# Altium footprint library bch-lib.PcbLib: 86 footprints (part 1 of 6)
Each footprint in its own frame and in the unit in brackets; x right, y up, seen from the top. Pads: shape width x height; smd on the part's side, far side on the other; paste and mask are expansions set on the pad; w line width, h text height; cw(c..) or ccw(c..) is an arc to the next point about the centre after c.
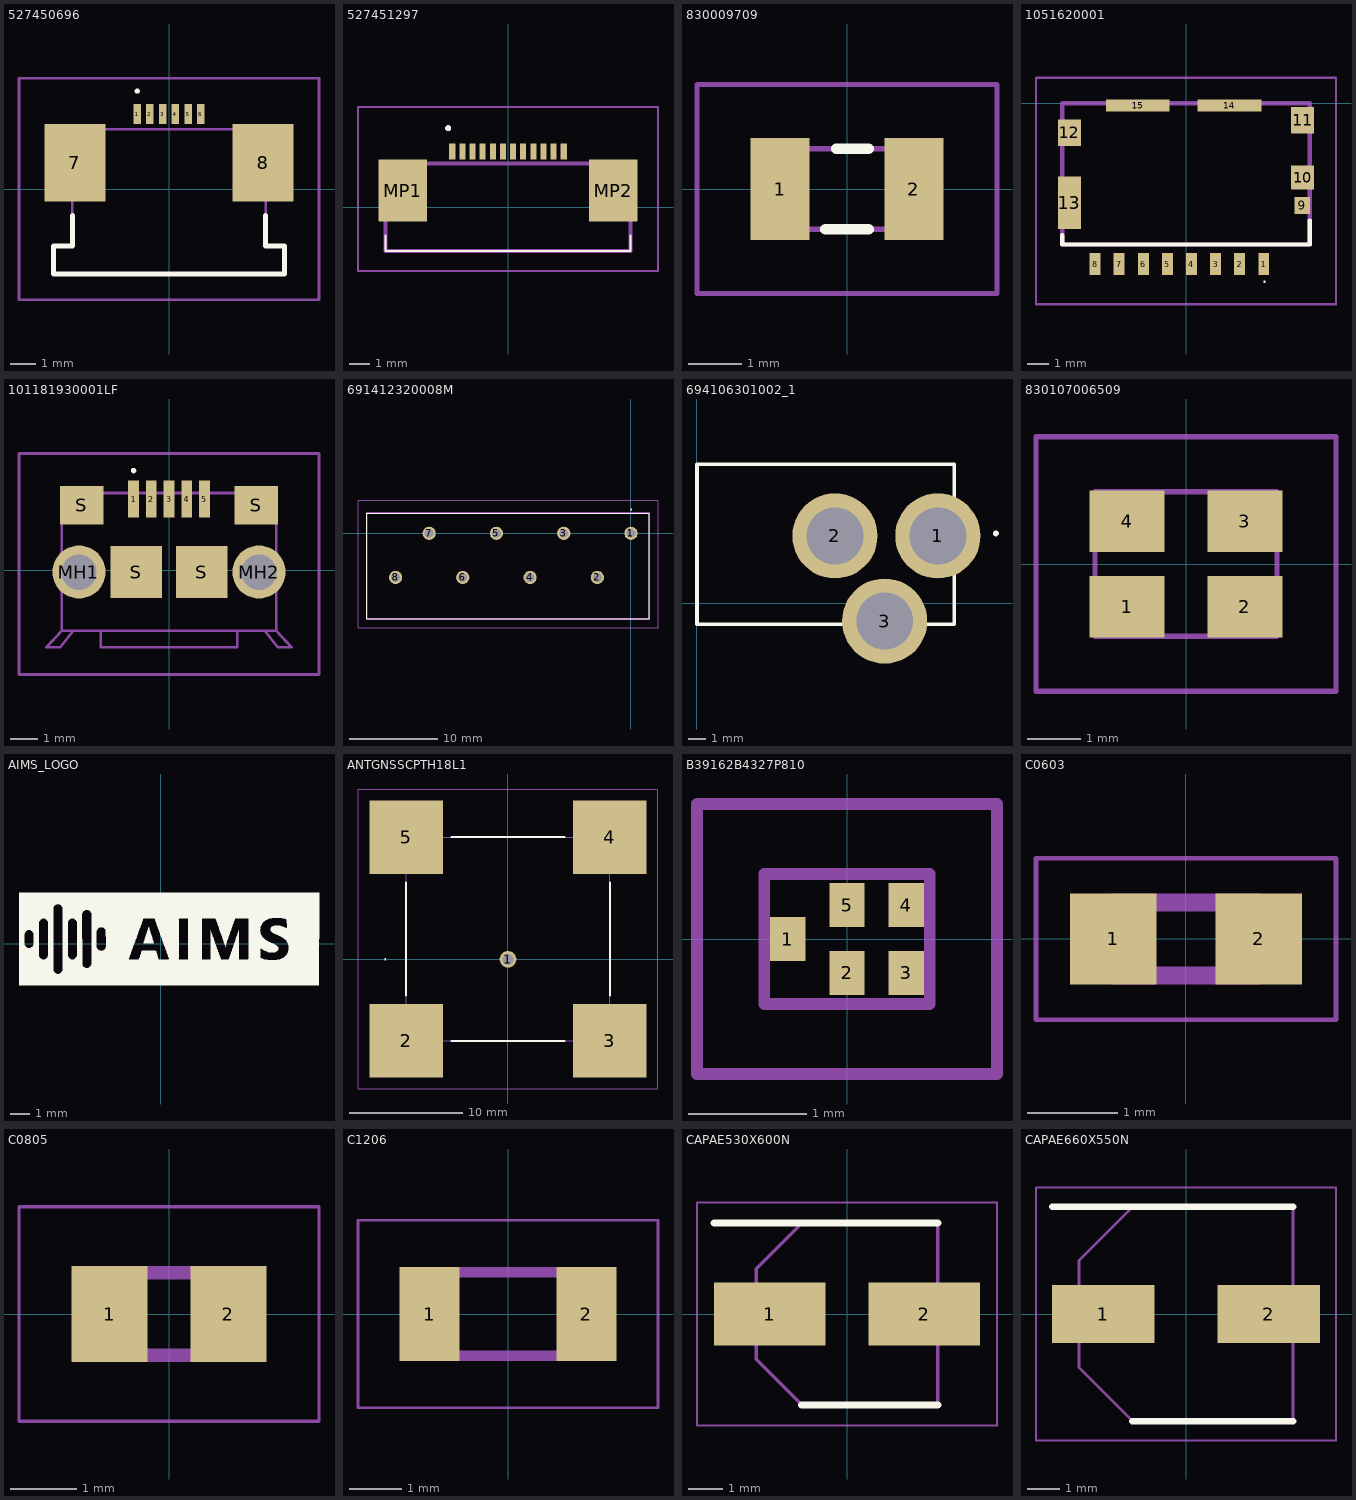
[diagram p0: the footprints below, top view; thin cyan lines are the x and y axes]

## 527450696 [mm]
pads (8):
  rect 0.3x0.8 smd: 1(-1.25,2.95) 2(-0.75,2.95) 3(-0.25,2.95) 4(0.25,2.95) 5(0.75,2.95) 6(1.25,2.95)
  rect 2.4x3.05 smd: 7(-3.7,1.025) 8(3.7,1.025)
Top Overlay:
  lines w0.1: -1.25,3.8 cw(c-1.25,3.85) -1.25,3.9 cw(c-1.25,3.85) -1.25,3.8
  lines w0.2: -3.8,-1.05 -3.8,-2.25 -4.55,-2.25 -4.55,-3.35 4.55,-3.35 4.55,-2.25 3.8,-2.25 3.8,-1.05
Mechanical 13:
  lines w0.1: -4.55,-3.35 -4.55,-2.25 -3.8,-2.25 -3.8,2.35 0,2.35 3.8,2.35 3.8,-2.25 4.55,-2.25 4.55,-3.35 -4.55,-3.35
Mechanical 15:
  lines w0.1: -5.9,-4.35 5.9,-4.35 5.9,4.35 -5.9,4.35 -5.9,-4.35
3D body "52745-0696.stp": height 2, standoff 0, extent -4.55,-3.2 4.55,3.2

## 527451297 [mm]
pads (14):
  rect 0.3x0.8 smd: 1(-2.75,2.75) 2(-2.25,2.75) 3(-1.75,2.75) 4(-1.25,2.75) 5(-0.75,2.75) 6(-0.25,2.75) 7(0.25,2.75) 8(0.75,2.75) 9(1.25,2.75) 10(1.75,2.75) 11(2.25,2.75) 12(2.75,2.75)
  rect 2.4x3.05 smd: MP1(-5.2,0.825) MP2(5.2,0.825)
Top Overlay:
  lines w0.1: -6.05,-2.15 -6.05,-1.4 -6.05,-2.15 ; -6.05,-2.15 6.05,-2.15 ; -6.05,-2.15 6.05,-2.15 ; 6.05,-2.15 6.05,-1.4 6.05,-2.15
  lines w0.2: -3,3.9 ccw(c-2.95,3.9) -2.9,3.9 ; -3,3.9 cw(c-2.95,3.9) -2.9,3.9 ; -3,3.9 ccw(c-2.95,3.9) -2.9,3.9
Mechanical 13:
  lines w0.2: -6.05,-2.15 6.05,-2.15 6.05,2.15 -6.05,2.15 -6.05,-2.15
Mechanical 15:
  lines w0.1: -7.4,-3.15 7.4,-3.15 7.4,4.95 -7.4,4.95 -7.4,-3.15
3D body "52745-1297.stp": height 2, standoff 0, extent -6.05,-2.06 6.05,2.94

## 830009709 [mm]
pads (2):
  rect 1.1x1.9 smd: 1(-1.25,0) 2(1.25,0)
Top Overlay:
  lines w0.2: -0.4,-0.75 0.4,-0.75 -0.4,-0.75 ; -0.2,0.75 0.4,0.75 -0.2,0.75
Mechanical 13:
  lines w0.1: -1.6,-0.75 -1.6,0.75 1.6,0.75 1.6,-0.75 -1.6,-0.75
Mechanical 15:
  lines w0.1: -2.8,-1.95 -2.8,1.95 2.8,1.95 2.8,-1.95 -2.8,-1.95
3D body "830009709.stp": height 0.75, standoff 0, extent -1.6,-0.75 1.6,0.75

## 1051620001 [mm]
pads (15):
  rect 0.5x1 smd: 1(3.55,-7.34) 2(2.45,-7.34) 3(1.35,-7.34) 4(0.25,-7.34) 5(-0.85,-7.34) 6(-1.95,-7.34) 7(-3.05,-7.34) 8(-4.15,-7.34)
  rect 0.72x0.78 smd: 9(5.31,-4.66)
  rect 1.05x1.08 smd: 10(5.325,-3.39)
  rect 1.05x1.2 smd: 11(5.325,-0.78) 12(-5.325,-1.35)
  rect 1.05x2.39 smd: 13(-5.325,-4.535)
  rect 2.91x0.55 smd: 14(1.986,-0.105) 15(-2.204,-0.105)
Top Overlay:
  lines w0.057: 3.556,-8.15 ccw(c3.584,-8.15) 3.612,-8.15 ccw(c3.584,-8.15) 3.556,-8.15
  lines w0.2: -5.65,-6.028 -5.65,-6.45 5.65,-6.45 5.65,-5.355
Mechanical 13:
  lines w0.2: -5.65,-6.45 5.65,-6.45 5.65,0 -5.65,0 -5.65,-6.45
Mechanical 15:
  lines w0.1: -6.85,-9.178 6.85,-9.178 6.85,1.17 -6.85,1.17 -6.85,-9.178
3D body "105162-0001.stp": height 1.45, standoff 0, extent -5.65,-7.825 5.65,-0.225

## 101181930001LF [mm]
pads (11):
  rect 0.4x1.35 smd: 1(-1.3,2.605) 2(-0.65,2.605) 3(0,2.605) 4(0.65,2.605) 5(1.3,2.605)
  round 1.95 hole 1.3: MH1(-3.3,-0.07) MH2(3.3,-0.07)
  rect 1.6x1.4 smd: S(-3.2,2.38) S(3.2,2.38)
  rect 1.9x1.9 smd: S(-1.2,-0.07) S(1.2,-0.07)
Top Overlay:
  lines w0.1: -1.3,3.6 ccw(c-1.3,3.65) -1.3,3.7 ccw(c-1.3,3.65) -1.3,3.6
Mechanical 13:
  lines w0.1: -3.5,-2.22 -4,-2.83 -4.5,-2.83 -3.93,-2.22 ; -2.5,-2.22 -2.5,-2.83 2.5,-2.83 2.5,-2.22 ; 3.5,-2.22 4,-2.83 4.5,-2.83 3.93,-2.22 ; -3.93,-2.22 3.93,-2.22 ; -3.93,-2.22 -3.93,2.83 3.93,2.83 3.93,-2.22
Mechanical 15:
  lines w0.1: -5.5,-3.83 5.5,-3.83 5.5,4.28 -5.5,4.28 -5.5,-3.83
3D body "10118193-0001LF.stp": height 2.81, standoff -0.79, extent -4.098,-2.731 3.758,2.93

## 691412320008M [mm]
pads (8):
  round 1.5 hole 1: 1(0,0) 2(-3.81,-5) 3(-7.62,0) 4(-11.43,-5) 5(-15.24,0) 6(-19.05,-5) 7(-22.86,0) 8(-26.67,-5)
Top Overlay:
  lines w0.1: -29.92,-9.7 2.06,-9.7 2.06,2.3 -29.92,2.3 -29.92,-9.7 ; 0,2.7 ccw(c0.05,2.7) 0.1,2.7 ccw(c0.05,2.7) 0,2.7
Mechanical 13:
  lines w0.2: -29.92,-9.7 2.06,-9.7 2.06,2.3 -29.92,2.3 -29.92,-9.7
Mechanical 15:
  lines w0.1: -30.92,-10.7 3.06,-10.7 3.06,3.75 -30.92,3.75 -30.92,-10.7
3D body "691412320008M.stp": height 13.4, standoff -5, extent -29.92,-9.7 2.06,2.3

## 694106301002_1 [mm]
pads (3):
  round 4.8 hole 3.2: 1(13.6,3.8) 2(7.8,3.8) 3(10.6,-1)
Top Overlay:
  circle w0.2: c16.867,3.939 r0.064
  lines w0.2: 0.025,-1.168 14.525,-1.168 14.525,7.832 0.025,7.832 0.025,-1.168
3D body "694106301002.stp": height 11.02, standoff -3.47, extent 0.12,-1.22 14.62,8.28

## 830107006509 [mm]
pads (4):
  rect 1.4x1.15 smd: 1(-1.1,-0.8) 2(1.1,-0.8) 3(1.1,0.8) 4(-1.1,0.8)
Mechanical 13:
  lines w0.1: -1.7,-1.35 1.7,-1.35 1.7,1.35 -1.7,1.35 -1.7,-1.35
Mechanical 15:
  lines w0.1: -2.8,-2.375 2.8,-2.375 2.8,2.375 -2.8,2.375 -2.8,-2.375
3D body "830107006509.stp": height 0.65, standoff 0, extent -1.7,-1.35 1.7,1.35

## AIMS_LOGO [mm]
Top Overlay:
  region: 5 vertices and 10 holes, not listed, extent -7.285,-2.142 8.158,2.608
  region: -0.59,0.815 -0.582,0.796 -0.578,0.78 -0.573,0.755 -0.565,0.716 -0.557,0.685 -0.536,0.637 -0.53,0.612 -0.526,0.596 -0.522,0.577 -0.507,0.538 -0.497,0.513 -0.491,0.488 -0.484,0.457 -0.472,0.426 -0.462,0.405 -0.459,0.389 -0.453,0.364 -0.449,0.349 -0.433,0.31 -0.424,0.285 -0.414,0.241 -0.399,0.198 -0.389,0.173 -0.381,0.142 -0.375,0.117 -0.364,0.086 -0.343,0.038 -0.35,0.018 -0.368,0.012 -0.383,0.008 -0.855,0.012 -0.869,0.026 -0.865,0.053 -0.853,0.08 -0.849,0.096 -0.838,0.123 -0.83,0.15 -0.818,0.196 -0.809,0.221 -0.799,0.242 -0.787,0.281 -0.778,0.326 -0.756,0.374 -0.751,0.399 -0.743,0.43 -0.731,0.461 -0.722,0.486 -0.714,0.513 -0.708,0.538 -0.704,0.554 -0.691,0.587 -0.683,0.606 -0.675,0.637 -0.669,0.662 -0.662,0.681 -0.652,0.703 -0.644,0.73 -0.636,0.776 -0.629,0.807 -0.615,0.832 -0.606,0.834 -0.594,0.826 -0.59,0.819

## ANTGNSSCPTH18L1 [mm]
pads (5):
  round 1.478 hole 0.95: 1(0,0)
  rect 6.5x6.5 smd: 2(-9,-7.2) 3(9,-7.2) 4(9,10.8) 5(-9,10.8)
Top Overlay:
  lines w0.1: -10.9,0 ccw(c-10.85,0) -10.8,0 ccw(c-10.85,0) -10.9,0
  lines w0.2: -9,-3.2 -9,6.8 ; -5,-7.2 5,-7.2 ; -5,10.8 5,10.8 ; 9,-3.2 9,6.8
Mechanical 13:
  lines w0.1: -9,-7.2 -9,10.8 9,10.8 9,-7.2 -9,-7.2
Mechanical 15:
  lines w0.1: -13.25,-11.45 -13.25,15.05 13.25,15.05 13.25,-11.45 -13.25,-11.45
3D body "ANT-GNSSCP-TH18L1.stp": height 4.01, standoff -1.7, extent -9,-7.197 9,10.803

## B39162B4327P810 [mm]
pads (5):
  rect 0.3x0.375 smd: 1(-0.5,0) 2(0,-0.287) 3(0.5,-0.287) 4(0.5,0.287) 5(0,0.287)
Mechanical 13:
  lines w0.1: -0.7,-0.55 -0.7,0.55 0.7,0.55 0.7,-0.55 -0.7,-0.55
Mechanical 15:
  lines w0.1: -1.27,-1.143 -1.27,1.143 1.27,1.143 1.27,-1.143 -1.27,-1.143
3D body "B39162B4327P810.stp": height 0.4, standoff 0, extent -0.7,-0.55 0.7,0.55

## C0603 [mm]
pads (2):
  rect 0.95x1 smd: 1(-0.8,0) 2(0.8,0)
Mechanical 13:
  lines w0.2: -0.8,-0.4 -0.8,0.4 0.8,0.4 0.8,-0.4 -0.8,-0.4
Mechanical 15:
  lines w0.05: -1.651,-0.889 -1.651,0.889 1.651,0.889 1.651,-0.889 -1.651,-0.889
3D body "C0603C102M5RACTU.stp": height 0.87, standoff 0, extent -0.87,-0.48 0.88,0.47

## C0805 [mm]
pads (2):
  rect 1.15x1.45 smd: 1(-0.9,0) 2(0.9,0)
Mechanical 13:
  lines w0.2: -1,-0.625 -1,0.625 1,0.625 1,-0.625 -1,-0.625
Mechanical 15:
  lines w0.05: -2.275,-1.625 -2.275,1.625 2.275,1.625 2.275,-1.625 -2.275,-1.625
3D body "C0805C104K4RACTU.stp": height 0.88, standoff 0, extent -1.1,-0.73 1.1,0.72

## C1206 [mm]
pads (2):
  rect 1.15x1.8 smd: 1(-1.5,0) 2(1.5,0)
Mechanical 13:
  lines w0.2: -1.6,-0.8 1.6,-0.8 1.6,0.8 -1.6,0.8 -1.6,-0.8
Mechanical 15:
  lines w0.05: -2.875,-1.8 2.875,-1.8 2.875,1.8 -2.875,1.8 -2.875,-1.8
3D body "C1206F474K5RACTU.stp": height 1.1, standoff 0, extent -1.7,-0.9 1.7,0.9

## CAPAE530X600N [mm]
pads (2):
  rect 3.25x1.85 smd: 1(-2.25,0) 2(2.25,0)
Top Overlay:
  lines w0.2: -3.875,2.65 2.65,2.65 ; -1.325,-2.65 2.65,-2.65
Mechanical 13:
  lines w0.1: -2.65,-1.325 -1.325,-2.65 2.65,-2.65 2.65,2.65 -1.325,2.65 -2.65,1.325 -2.65,-1.325
Mechanical 15:
  lines w0.05: -4.375,-3.25 -4.375,3.25 4.375,3.25 4.375,-3.25 -4.375,-3.25
3D body "VZL470M1ETR-0606.stp": height 6, standoff 0, extent -3.15,-2.75 3.15,2.75

## CAPAE660X550N [mm]
pads (2):
  rect 3.15x1.8 smd: 1(-2.55,0) 2(2.55,0)
Top Overlay:
  lines w0.2: -4.125,3.3 3.3,3.3 ; -1.65,-3.3 3.3,-3.3
Mechanical 13:
  lines w0.1: -3.3,-1.65 -3.3,1.65 -1.65,3.3 3.3,3.3 3.3,-3.3 -1.65,-3.3 -3.3,-1.65
Mechanical 15:
  lines w0.05: -4.625,-3.9 4.625,-3.9 4.625,3.9 -4.625,3.9 -4.625,-3.9
3D body "865080443007.stp": height 5.5, standoff 0, extent -3.4,-3.4 3.4,3.4